# Altium footprint library IoWLabsConnectors.PcbLib: 23 footprints (part 1 of 2)
Each footprint in its own frame and in the unit in brackets; x right, y up, seen from the top. Pads: shape width x height; smd on the part's side, far side on the other; paste and mask are expansions set on the pad; w line width, h text height; cw(c..) or ccw(c..) is an arc to the next point about the centre after c.
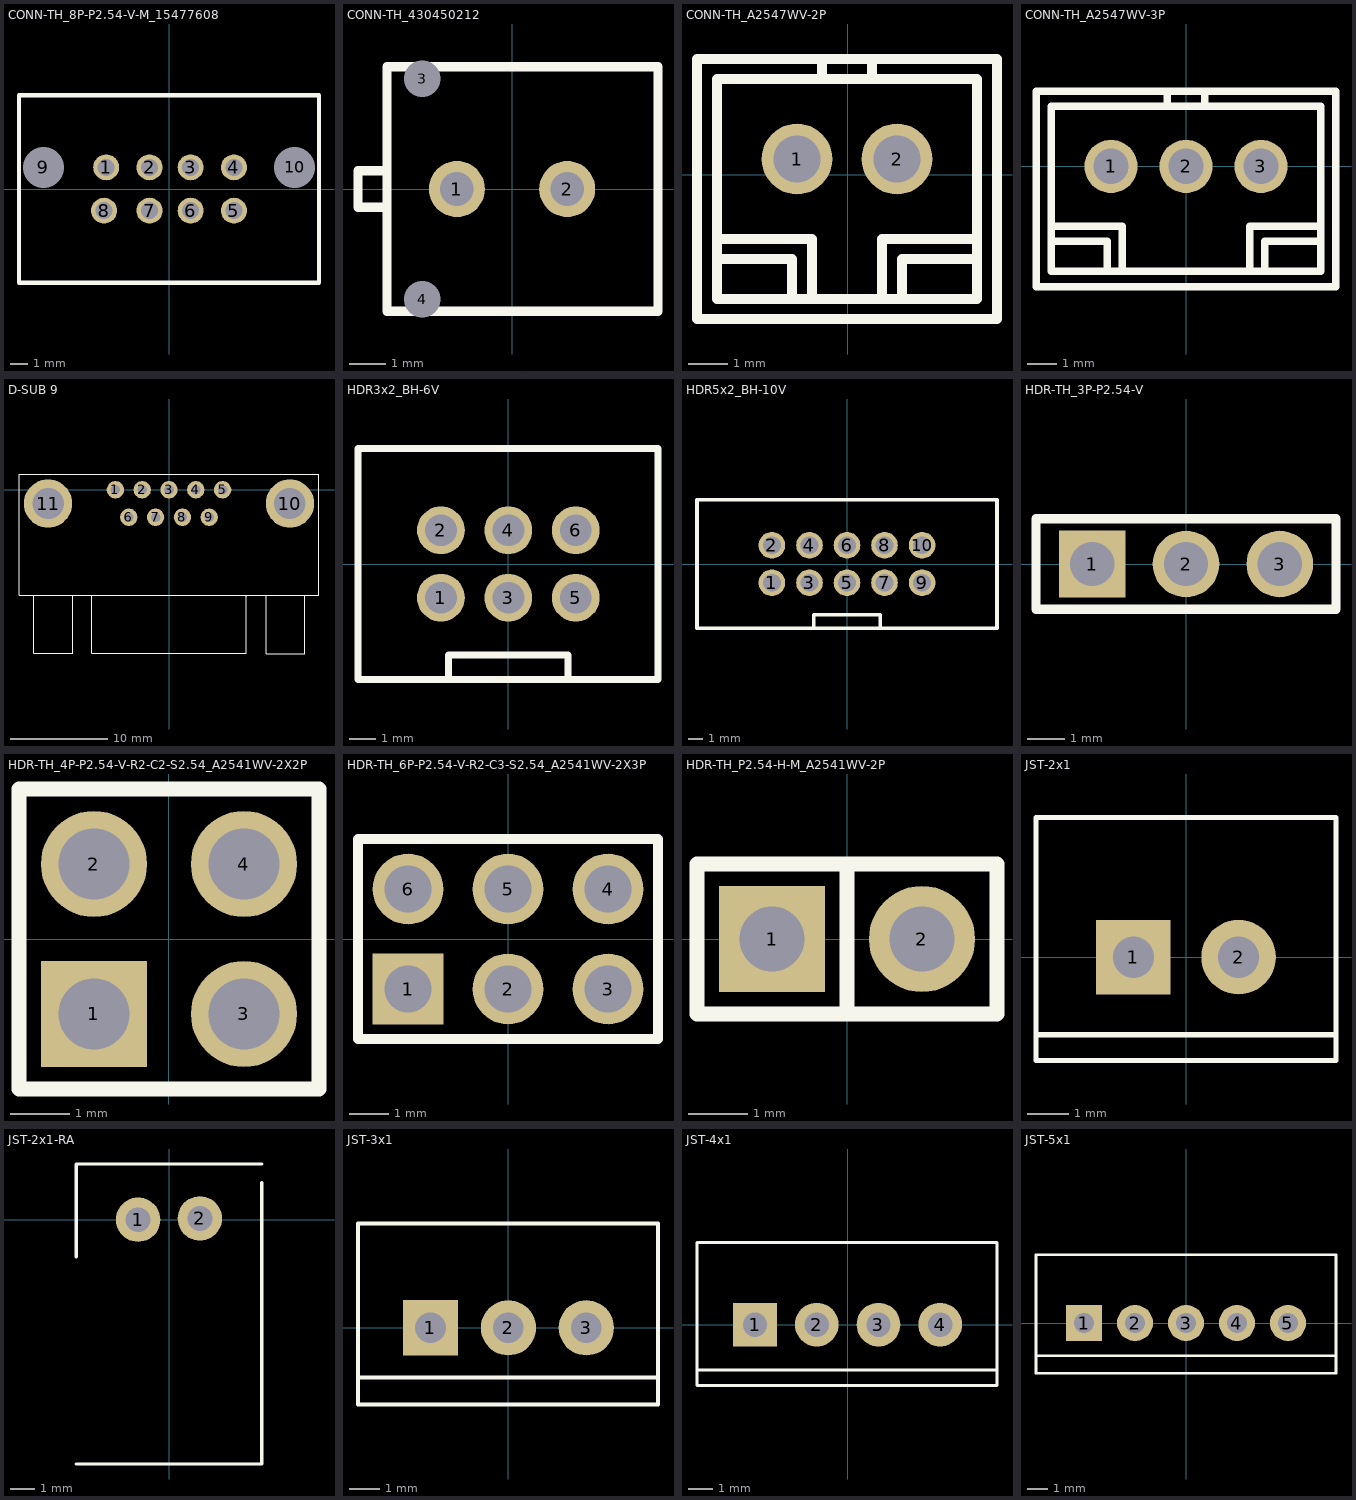
[diagram p0: the footprints below, top view; thin cyan lines are the x and y axes]

## CONN-TH_8P-P2.54-V-M_15477608 [mil]
pads (10):
  round 60 hole 39.37: 1(-145,50) 2(-45,50) 3(50,50) 4(150,50) 5(150,-50) 6(50,-50) 7(-45,-50) 8(-150,-50)
  round 60 hole 94.49: 9(-290.16,50) 10(290.16,50)
Top Overlay:
  lines w10: -346.46,-216.54 -346.46,216.54 346.46,216.54 346.46,-216.54 -346.46,-216.54
3D body "015477608.stp": height 500.59, standoff -154.41, extent -339.01,-194.88 340.99,225.12

## CONN-TH_430450212 [mm]
pads (4):
  round 1.524 hole 0.914: 1(-1.5,0) 2(1.5,0)
  round 0.5 hole 1: 3(-2.44,3) 4(-2.44,-3)
Top Overlay:
  lines w0.254: -3.4,-0.5 -4.191,-0.5 -4.191,0.5 -3.4,0.5 ; -3.4,-3.325 -3.4,3.325 3.97,3.325 3.97,-3.325 -3.4,-3.325
3D body "430450212.stp": height 9.95, standoff -3.14, extent -4.735,-3.6 4.035,3.55

## CONN-TH_A2547WV-2P [mm]
pads (2):
  round 1.8 hole 1.2: 1(-1.295,0.4) 2(1.245,0.4)
Top Overlay:
  lines w0.254: -3.327,-2.14 -1.422,-2.14 -1.422,-3.154 ; -3.327,-1.633 -0.914,-1.633 -0.914,-3.156 ; -0.66,2.431 -0.66,2.94 ; 0.61,2.431 0.61,2.94 ; 0.864,-3.156 0.864,-1.633 3.277,-1.633 ; 1.372,-3.156 1.372,-2.14 3.277,-2.14 ; -3.835,-3.664 -3.835,2.94 3.785,2.94 3.785,-3.664 -3.835,-3.664 ; -3.327,-3.156 -3.327,2.431 3.277,2.431 3.277,-3.156 -3.327,-3.156
3D body "705430036.stp": height 11.81, standoff -3.3, extent -3.708,-3.714 3.658,2.89

## CONN-TH_A2547WV-3P [mm]
pads (3):
  round 1.8 hole 1.2: 1(-2.54,0) 2(0,0) 3(2.54,0)
Top Overlay:
  lines w0.254: -4.572,-2.54 -2.667,-2.54 -2.667,-3.554 ; -4.572,-2.033 -2.159,-2.033 -2.159,-3.554 ; -0.635,2.032 -0.635,2.54 ; 0.635,2.032 0.635,2.54 ; 2.159,-3.556 2.159,-2.033 4.572,-2.033 ; 2.667,-3.554 2.667,-2.54 4.572,-2.54 ; -5.08,-4.07 5.08,-4.07 5.08,2.54 -5.08,2.54 -5.08,-4.07 ; -4.572,-3.556 4.572,-3.556 4.572,2.031 -4.572,2.031 -4.572,-3.556
3D body "705430002.stp": height 11.81, standoff -3.3, extent -5.08,-4.039 5.08,2.565

## D-SUB 9 [mm] "D-SUB 9 RA"
pads (11):
  round 1.8 hole 1: 1(-5.54,0) 2(-2.77,0) 3(0,0) 4(2.77,0) 5(5.54,0) 6(-4.155,-2.84) 7(-1.385,-2.84) 8(1.385,-2.84) 9(4.155,-2.84)
  round 5 hole 3.25: 10(12.5,-1.42) 11(-12.5,-1.42)
Top Overlay:
  lines w0.127: -13.995,-10.947 -13.97,-10.973 -13.97,-16.891 -9.97,-16.891 -9.97,-10.932 -9.982,-10.92 ; -8.001,-10.92 -8.001,-16.916 7.999,-16.916 7.999,-10.994 7.925,-10.92 ; 10.008,-10.92 10.033,-10.945 10.033,-16.942 14.046,-16.942 14.046,-10.971 13.995,-10.92 ; -15.5,-10.92 -15.5,1.6 15.5,1.6 15.5,-10.92 -15.5,-10.92
3D body "D-Sub 9 RA F.stp": height 12.5, standoff -3.95, extent -15.4,-16.94 15.4,1.56

## HDR3x2_BH-6V [mm]
pads (6):
  round 1.8 hole 1.2: 1(-2.54,-1.27) 2(-2.54,1.27) 3(0,-1.27) 4(0,1.27) 5(2.54,-1.27) 6(2.54,1.27)
Top Overlay:
  lines w0.254: -2.261,-4.343 -2.25,-4.333 -2.25,-3.429 2.25,-3.429 2.25,-4.333 2.261,-4.343 ; -5.664,-4.35 5.639,-4.35 5.639,4.35 -5.664,4.35 -5.664,-4.35
3D body "6-Pin Shrouded Header (IDC) Straight.stp": height 9.27, standoff -3.9, extent -5.715,-4.445 5.715,4.826

## HDR5x2_BH-10V [mm]
pads (10):
  round 1.8 hole 1.2: 1(-5.08,-1.27) 2(-5.08,1.27) 3(-2.54,-1.27) 4(-2.54,1.27) 5(0,-1.27) 6(0,1.27) 7(2.54,-1.27) 8(2.54,1.27) 9(5.08,-1.27) 10(5.08,1.27)
Top Overlay:
  lines w0.254: -2.261,-4.343 -2.25,-4.333 -2.25,-3.429 2.25,-3.429 2.25,-4.333 2.261,-4.343 ; -10.15,-4.35 -10.15,4.35 10.15,4.35 10.15,-4.35 -10.15,-4.35
3D body "BH-10.STEP": height 8.9, standoff -3.5, extent -10.175,-4.293 10.125,4.707

## HDR-TH_3P-P2.54-V [mm]
pads (3):
  rect 1.8x1.8 hole 1.2: 1(-2.54,0)
  round 1.8 hole 1.2: 2(0,0) 3(2.54,0)
Top Overlay:
  lines w0.254: -4.06,-1.22 -4.06,1.22 4.06,1.22 4.06,-1.22 -4.06,-1.22
3D body "PLS-3.step": height 8.6, standoff -3, extent -3.81,-1.27 3.81,1.27

## HDR-TH_4P-P2.54-V-R2-C2-S2.54_A2541WV-2X2P [mm]
pads (4):
  rect 1.8x1.8 hole 1.2: 1(-1.27,-1.27)
  round 1.8 hole 1.2: 2(-1.27,1.27) 3(1.27,-1.27) 4(1.27,1.27)
Top Overlay:
  lines w0.254: -2.54,-2.54 2.54,-2.54 2.54,2.54 -2.54,2.54 -2.54,-2.54
3D body "DS1021-2x2S61.stp": height 8.6, standoff -3, extent -2.54,-2.5 2.54,2.5

## HDR-TH_6P-P2.54-V-R2-C3-S2.54_A2541WV-2X3P [mm]
pads (6):
  rect 1.8x1.8 hole 1.2: 1(-2.54,-1.27)
  round 1.8 hole 1.2: 2(0,-1.27) 3(2.54,-1.27) 4(2.54,1.27) 5(0,1.27) 6(-2.54,1.27)
Top Overlay:
  lines w0.254: -3.81,-2.54 -3.81,2.54 3.81,2.54 3.81,-2.54 -3.81,-2.54
3D body "901310123.stp": height 9.25, standoff -2.9, extent -3.76,-2.54 3.86,2.54

## HDR-TH_P2.54-H-M_A2541WV-2P [mm]
pads (2):
  rect 1.8x1.8 hole 1.1: 1(-1.27,0)
  round 1.8 hole 1.1: 2(1.27,0)
Top Overlay:
  lines w0.254: -0.001,-1.27 -0.001,1.27 ; -2.54,-1.27 2.54,-1.27 2.54,1.27 -2.54,1.27 -2.54,-1.27
3D body "2x_Male_Pin_2.54_mm.STEP": height 8.36, standoff -2.74, extent -2.459,-1.164 2.621,1.236

## JST-2x1 [mm] "JST- TH-2x1-P2.5-XH"
pads (2):
  rect 1.8x1.8 hole 1: 1(-1.27,0)
  round 1.8 hole 1: 2(1.27,0)
Top Overlay:
  lines w0.127: -3.625,-1.875 3.625,-1.875 ; -3.625,-2.5 3.625,-2.5 3.625,3.375 -3.625,3.375 -3.625,-2.5
3D body "JST - XH - Thru V - 2Pin - 2.54mm.stp": height 7.21, standoff -3, extent -3.607,-2.489 3.607,3.353

## JST-2x1-RA [mm] "JST 2x1 RA TH p=2.54"
pads (2):
  round 1.8 hole 1: 1(-1.25,0) 2(1.25,0.05)
Top Overlay:
  lines w0.127: -3.75,-9.875 3.75,-9.875 3.75,-1.5 3.75,1.5 ; -3.75,-1.5 -3.75,1.5 -3.75,2.25 3.75,2.25
3D body "JST 2pin Right Receptacle.step": height 5.85, standoff -2.73, extent -3.75,-9.85 3.75,2.25

## JST-3x1 [mm] "JST- TH-3x1-P2.5-B3B-XH-AM-(LF)(SN)"
pads (3):
  rect 1.8x1.8 hole 1: 1(-2.54,0)
  round 1.8 hole 1: 2(0,0) 3(2.54,0)
Top Overlay:
  lines w0.127: -4.9,-1.625 4.85,-1.625 4.875,-1.65 ; -4.9,-2.5 -4.9,3.4 4.875,3.4 4.875,3.375 4.875,-2.5 -4.9,-2.5
3D body "JST - XH - Thru (V) - 3Pin - 2.54mm.stp": height 7.21, standoff -3, extent -4.877,-2.489 4.877,3.353

## JST-4x1 [mm] "JST- TH-4x1-P2.5-XH"
pads (4):
  rect 1.8x1.8 hole 1: 1(-3.81,0)
  round 1.8 hole 1: 2(-1.27,0) 3(1.27,0) 4(3.81,0)
Top Overlay:
  lines w0.127: -6.2,-1.875 6.15,-1.875 ; -6.2,-2.5 3.625,-2.5 6.15,-2.5 6.15,3.375 -6.2,3.375 -6.2,-2.5
3D body "JST - XH - Thru V - 4Pin - 2.54mm.stp": height 7.21, standoff -3, extent -6.172,-2.489 6.122,3.353

## JST-5x1 [mm] "JST- TH-5x1-P2.5-B3B-XH-AM-(LF)(SN)"
pads (5):
  rect 1.8x1.8 hole 1: 1(-5.08,0)
  round 1.8 hole 1: 2(-2.54,0) 3(0,0) 4(2.54,0) 5(5.08,0)
Top Overlay:
  lines w0.127: -7.475,-1.625 7.475,-1.625 ; -7.475,-2.5 7.475,-2.5 7.475,3.4 4.875,3.4 -7.475,3.4 -7.475,-2.5
3D body "JST - XH - Thru V - 5Pin - 2.54mm.stp": height 7.21, standoff -3, extent -7.417,-2.489 7.417,3.353